# Altium footprint library CON_6PIN_BATT_DEFIBRILLATOR.PcbLib: 1 footprints
Each footprint in its own frame and in the unit in brackets; x right, y up, seen from the top. Pads: shape width x height; smd on the part's side, far side on the other; paste and mask are expansions set on the pad; w line width, h text height; cw(c..) or ccw(c..) is an arc to the next point about the centre after c.
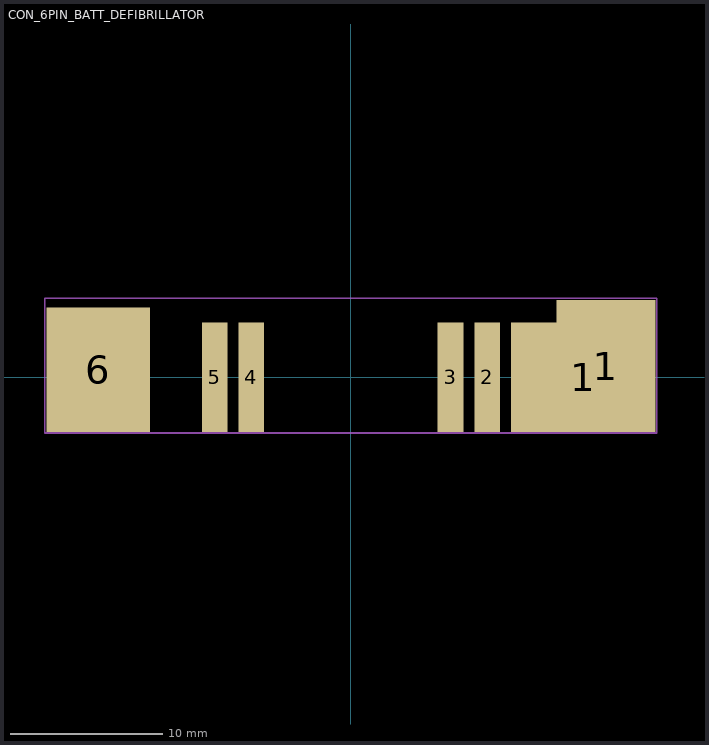
[diagram p0: the footprint, top view; thin cyan lines are the x and y axes]

## CON_6PIN_BATT_DEFIBRILLATOR [mm]
height 0.55
pads (7):
  rect 9.5x7.2 smd: 1(15.25,0)
  rect 6.5x8.7 smd: 1(16.75,0.75)
  rect 1.7x7.2 smd: 2(8.95,0) 3(6.55,0) 4(-6.55,0) 5(-8.95,0)
  rect 6.8x8.2 smd: 6(-16.6,0.5)
Top Assembly:
  lines w0.1: -20.125,-3.65 -20.125,5.2 20.075,5.2 20.075,0.85 20.075,-0.55 20.075,-3.65 -20.125,-3.65
  text "'.Designator'" at -0.975,-0.35 h0.7